# Altium schematic symbol library SCH - TRANSISTORS - TRANSISTOR NPN.Schlib: 1 symbol
Pins are listed as number, name and electrical type; pins without a type are passive.

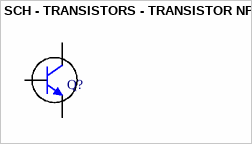
[diagram p0: symbol SCH - TRANSISTORS - TRANSISTOR NPN]

## SCH - TRANSISTORS - TRANSISTOR NPN
designator Q?
footprint SOT23_L (SOT23, 3-Leads, Body 2.9x1.3mm, Pitch 0.95mm, Lead Span 2.3mm, IPC High Density)
pins: 1 B, 2 E, 3 C